# EAGLE library part MAPLEM (library FSAE Electric (Alexander Ray's conflicted copy 2016-04-02))
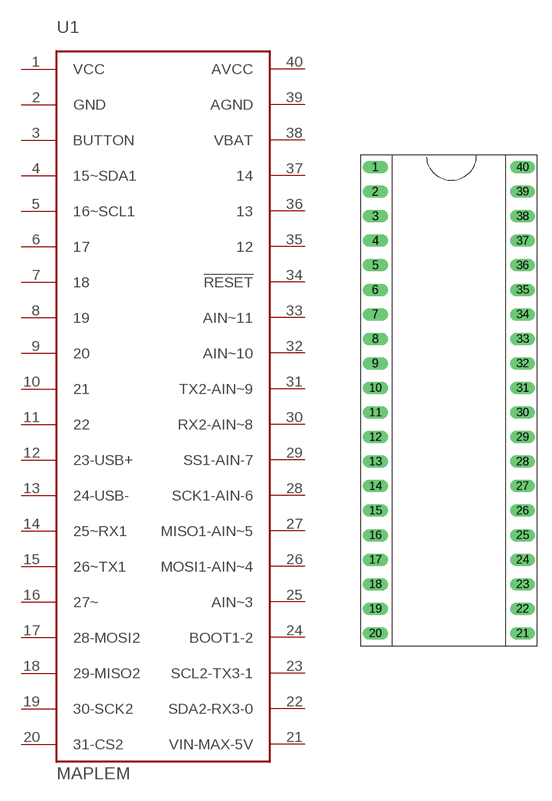
[diagram p1: symbol with the pads of DIP(.6)-40; footprint DIP(.6)-40]

Designator prefix U1

## MAPLEM  [DIP(.6)-40]
1  VCC
2  GND
3  BUTTON
4  15~SDA1
5  16~SCL1
6  17
7  18
8  19
9  20
10  21
11  22
12  23-USB+
13  24-USB-
14  25~RX1
15  26~TX1
16  27~
17  28-MOSI2
18  29-MISO2
19  30-SCK2
20  31-CS2
21  VIN-MAX-5V
22  SDA2-RX3-0
23  SCL2-TX3-1
24  BOOT1-2
25  AIN~3
26  MOSI1-AIN~4
27  MISO1-AIN~5
28  SCK1-AIN-6
29  SS1-AIN-7
30  RX2-AIN~8
31  TX2-AIN~9
32  AIN~10
33  AIN~11
34  !RESET
35  12
36  13
37  14
38  VBAT
39  AGND
40  AVCC

## Footprint DIP(.6)-40 (pad centres in mm)
drill 0.8 long: 1 -7.62,24.13; 2 -7.62,21.59; 3 -7.62,19.05; 4 -7.62,16.51; 5 -7.62,13.97; 6 -7.62,11.43; 7 -7.62,8.89; 8 -7.62,6.35; 9 -7.62,3.81; 10 -7.62,1.27; 11 -7.62,-1.27; 12 -7.62,-3.81; 13 -7.62,-6.35; 14 -7.62,-8.89; 15 -7.62,-11.43; 16 -7.62,-13.97; 17 -7.62,-16.51; 18 -7.62,-19.05; 19 -7.62,-21.59; 20 -7.62,-24.13; 21 7.62,-24.13; 22 7.62,-21.59; 23 7.62,-19.05; 24 7.62,-16.51; 25 7.62,-13.97; 26 7.62,-11.43; 27 7.62,-8.89; 28 7.62,-6.35; 29 7.62,-3.81; 30 7.62,-1.27; 31 7.62,1.27; 32 7.62,3.81; 33 7.62,6.35; 34 7.62,8.89; 35 7.62,11.43; 36 7.62,13.97; 37 7.62,16.51; 38 7.62,19.05; 39 7.62,21.59; 40 7.62,24.13